# Altium schematic symbol library 1.2   - 74系列芯片.SchLib: 18 symbols
Pins are listed as number, name and electrical type; pins without a type are passive.

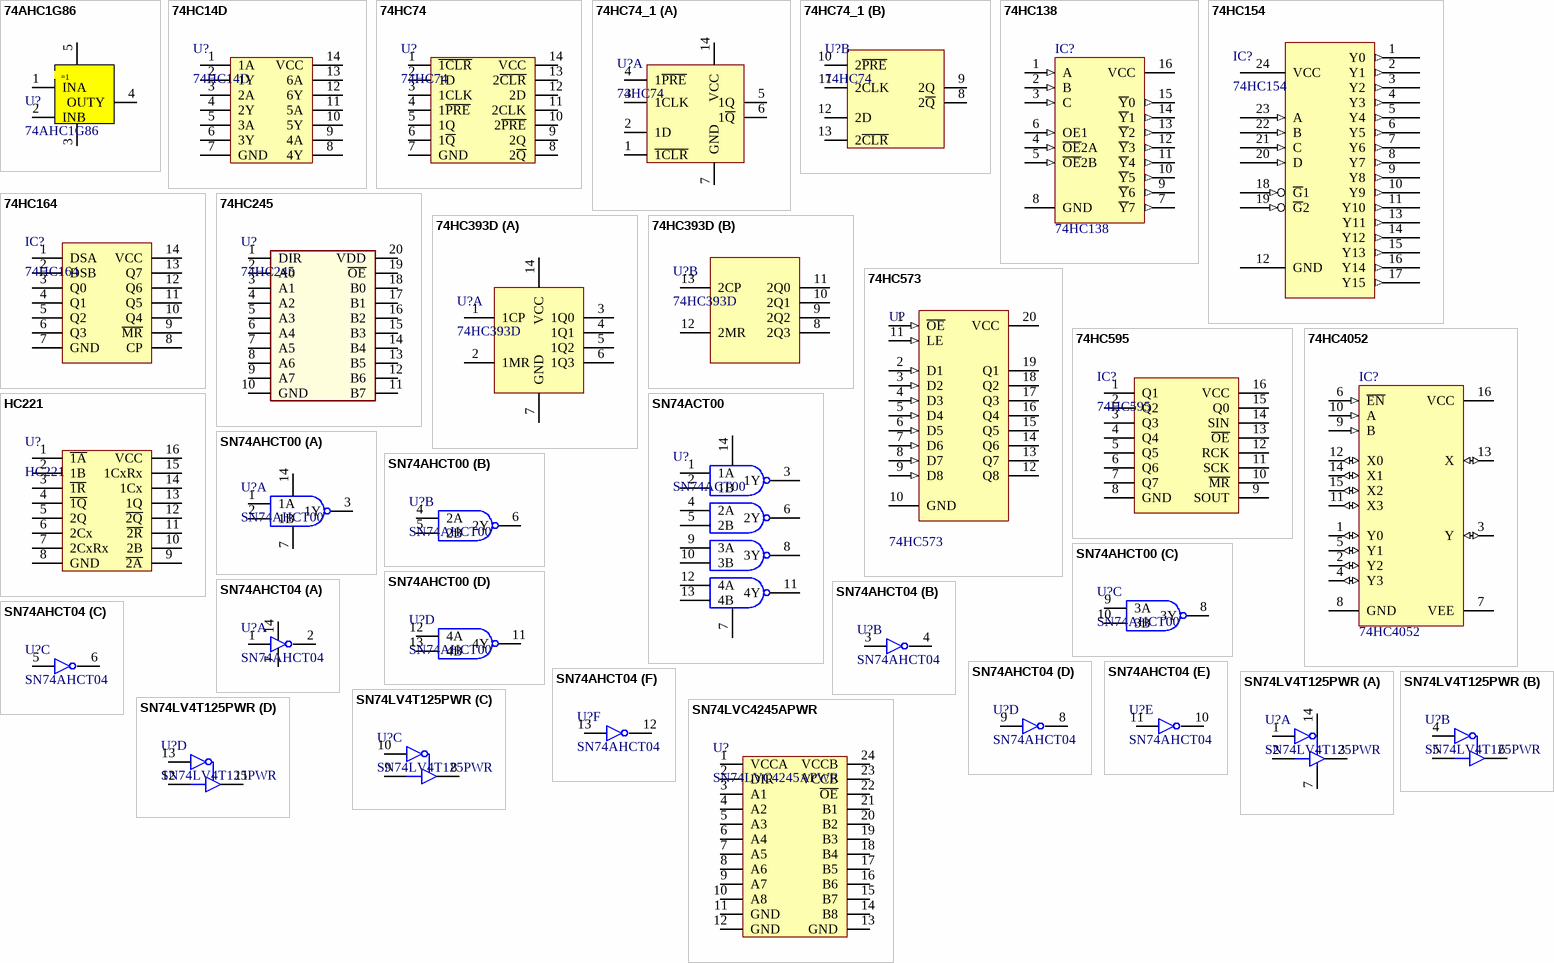
[diagram p0: symbols 74AHC1G86 to SN74LVC4245APWR]

## 74AHC1G86
designator U?
增强型塑料单路 2 输入异或门; Revised By: Z_xiao
footprint SOT23-5L (3x1.6x1.1mm(长宽高))
pins: 1 INA, 2 INB, 3 GND, 4 OUTY, 5 VCC

## 74HC14D
designator U?
6路斯密特触发反相器; Revised By: Z_xiao
footprint SOP14_L (8.7*6.2*1.8mm（长宽高）)
pins: 1 1A, 2 1Y, 3 2A, 4 2Y, 5 3A, 6 3Y, 7 GND, 8 4Y, 9 4A, 10 5Y, 11 5A, 12 6Y, 13 6A, 14 VCC

## 74HC74
designator U?
双路 D 类触发器; Revised By: Z_xiao
footprint SOP14_L (8.7*6.2*1.8mm（长宽高）)
footprint SOP14_M (8.7*6.2*1.8mm（长宽高）)
footprint SOP14_N (8.7*6.2*1.8mm（长宽高）)
pins: 1 ~{1CLR}, 2 1D, 3 1CLK, 4 1~{PRE}, 5 1Q, 6 1~{Q}, 7 GND, 8 2~{Q}, 9 2Q, 10 2~{PRE}, 11 2CLK, 12 2D, 13 2~{CLR}, 14 VCC

## 74HC74_1
designator U?, comment 74HC74
双路 D 类触发器; Revised By: Z_xiao
footprint SOP14_L (8.7*6.2*1.8mm（长宽高）)
footprint SOP14_M (8.7*6.2*1.8mm（长宽高）)
footprint SOP14_N (8.7*6.2*1.8mm（长宽高）)
part A pins: 1 ~{1CLR}, 2 1D, 3 1CLK, 4 1~{PRE}, 5 1Q, 6 1~{Q}, 7 GND, 14 VCC
part B pins: 8 2~{Q}, 9 2Q, 10 2~{PRE}, 11 2CLK, 12 2D, 13 2~{CLR}

## 74HC138
designator IC?
138译码器; Revised By: Z_xiao
footprint DIP16-300 (19.3*7.6*3.8(长宽高）)
footprint SOP16_L (10.3*6.2*1.8mm（长宽高）)
footprint SOP16_N (10.3*6.2*1.8mm（长宽高）)
footprint SOP16_M (10.3*6.2*1.8mm（长宽高）)
pins: 1 A (in), 2 B (in), 3 C (in), 4 ~{OE}2A (in), 5 ~{OE}2B (in), 6 OE1 (in), 7 ~{Y}7 (out), 8 GND (power), 9 ~{Y}6 (out), 10 ~{Y}5 (out), 11 ~{Y}4 (out), 12 ~{Y}3 (out), 13 ~{Y}2 (out), 14 ~{Y}1 (out), 15 ~{Y}0 (out), 16 VCC (power)

## 74HC154
designator IC?
4线转16线译码器; Revised By: Z_xiao
footprint DIP24-300 (31*7.6*3.8(长宽高）)
footprint DIP24-300_MH (带底座 31*7.6*3.8(长宽高）)
footprint SOP24_L (15.4*10.6*2.6mm（长宽高）)
footprint SOP24_M (15.4*10.6*2.6mm（长宽高）)
footprint SOP24_N (15.4*10.6*2.6mm（长宽高）)
pins: 1 Y0 (out), 2 Y1 (out), 3 Y2 (out), 4 Y3 (out), 5 Y4 (out), 6 Y5 (out), 7 Y6 (out), 8 Y7 (out), 9 Y8 (out), 10 Y9 (out), 11 Y10 (out), 12 GND (power), 13 Y11 (out), 14 Y12 (out), 15 Y13 (out), 16 Y14 (out), 17 Y15 (out), 18 ~{G}1 (in), 19 ~{G}2 (in), 20 D (in), 21 C (in), 22 B (in), 23 A (in), 24 VCC (power)

## 74HC164
designator IC?
8位串入并出移位寄存器; Revised By: Z_xiao
footprint SOP14_N (8.7*6.2*1.8mm（长宽高）)
footprint SOP14_L (8.7*6.2*1.8mm（长宽高）)
footprint SOP14_M (8.7*6.2*1.8mm（长宽高）)
footprint DIP14-300 (19*7.6*3.8(长宽高）)
pins: 1 DSA, 2 DSB, 3 Q0, 4 Q1, 5 Q2, 6 Q3, 7 GND, 8 CP, 9 ~{MR}, 10 Q4, 11 Q5, 12 Q6, 13 Q7, 14 VCC

## 74HC245
designator U?
兼容TTL器件引脚的高速CMOS总线收发器; Revised By: Z_xiao
pins: 1 DIR, 2 A0, 3 A1, 4 A2, 5 A3, 6 A4, 7 A5, 8 A6, 9 A7, 10 GND, 11 B7, 12 B6, 13 B5, 14 B4, 15 B3, 16 B2, 17 B1, 18 B0, 19 ~{OE}, 20 VDD

## 74HC393D
designator U?
双4位二进制脉冲计数器; Revised By: Z_xiao
footprint SOP14_L (8.7*6.2*1.8mm（长宽高）)
part A pins: 1 1CP, 2 1MR, 3 1Q0, 4 1Q1, 5 1Q2, 6 1Q3, 7 GND, 14 VCC
part B pins: 8 2Q3, 9 2Q2, 10 2Q1, 11 2Q0, 12 2MR, 13 2CP

## 74HC573
designator U?
D类三态输出锁存器; Revised By: Z_xiao
footprint SOP20_L (13*10.6*2.6（长宽高）)
footprint SOP20_N (13*10.6*2.6（长宽高）)
footprint SOP20_M (13*10.6*2.6（长宽高）)
footprint DIP20-300 (26.4*7.6*3.8(长宽高）)
pins: 1 ~{OE} (in), 2 D1 (in), 3 D2 (in), 4 D3 (in), 5 D4 (in), 6 D5 (in), 7 D6 (in), 8 D7 (in), 9 D8 (in), 10 GND (power), 11 LE (in), 12 Q8 (hiz), 13 Q7 (hiz), 14 Q6 (hiz), 15 Q5 (hiz), 16 Q4 (hiz), 17 Q3 (hiz), 18 Q2 (hiz), 19 Q1 (hiz), 20 VCC (power)

## 74HC595
designator IC?
8位移位寄存器; Revised By: Z_xiao
footprint SOP16_N (10.3*6.2*1.8mm（长宽高）)
footprint SOP16_L (10.3*6.2*1.8mm（长宽高）)
footprint SOP16_M (10.3*6.2*1.8mm（长宽高）)
footprint DIP16-300 (19.3*7.6*3.8(长宽高）)
pins: 1 Q1, 2 Q2, 3 Q3, 4 Q4, 5 Q5, 6 Q6, 7 Q7, 8 GND, 9 SOUT, 10 ~{MR}, 11 SCK, 12 RCK, 13 ~{OE}, 14 SIN, 15 Q0, 16 VCC

## 74HC4052
designator IC?
双通道模拟开关; Revised By: Z_xiao
footprint SOP16_N (10.3*6.2*1.8mm（长宽高）)
footprint SOP16_L (10.3*6.2*1.8mm（长宽高）)
footprint SOP16_M (10.3*6.2*1.8mm（长宽高）)
footprint DIP16-300 (19.3*7.6*3.8(长宽高）)
pins: 1 Y0 (io), 2 Y2 (io), 3 Y (io), 4 Y3 (io), 5 Y1 (io), 6 ~{EN} (in), 7 VEE (power), 8 GND (power), 9 B (in), 10 A (in), 11 X3 (io), 12 X0 (io), 13 X (io), 14 X1 (io), 15 X2 (io), 16 VCC (power)

## HC221
designator U?
多频振荡器; Revised By: Z_xiao
footprint SOP16_L (10.3*6.2*1.8mm（长宽高）)
pins: 1 ~{1A}, 2 1B, 3 ~{1R}, 4 ~{1Q}, 5 2Q, 6 2Cx, 7 2CxRx, 8 GND, 9 ~{2A}, 10 2B, 11 ~{2R}, 12 ~{2Q}, 13 1Q, 14 1Cx, 15 1CxRx, 16 VCC

## SN74ACT00
designator U?
四路 2 输入正与非门; Revised By: Z_xiao
footprint TSSOP14_L (5*6.4*1mm（长宽高）)
pins: 1 1A, 2 1B, 3 1Y, 4 2A, 5 2B, 6 2Y, 7, 8 3Y, 9 3A, 10 3B, 11 4Y, 12 4A, 13 4B, 14

## SN74AHCT00
designator U?
四路 2 输入正与非门; Revised By: Z_xiao
footprint SOP14_L (8.7*6.2*1.8mm（长宽高）)
footprint SOP14_M (8.7*6.2*1.8mm（长宽高）)
footprint SOP14_N (8.7*6.2*1.8mm（长宽高）)
part A pins: 1 1A, 2 1B, 3 1Y, 7, 14
part B pins: 4 2A, 5 2B, 6 2Y
part C pins: 8 3Y, 9 3A, 10 3B
part D pins: 11 4Y, 12 4A, 13 4B

## SN74AHCT04
designator U?
六路反向器; Revised By: Z_xiao
footprint SOP14_L (8.7*6.2*1.8mm（长宽高）)
footprint SOP14_M (8.7*6.2*1.8mm（长宽高）)
footprint SOP14_N (8.7*6.2*1.8mm（长宽高）)
part A pins: 1 1A, 2 1Y, 7 GND, 14 VCC
part B pins: 3 2A, 4 2Y
part C pins: 5 3A, 6 3Y
part D pins: 8 4Y, 9 4A
part E pins: 10 5Y, 11 5A
part F pins: 12 6Y, 13 6A

## SN74LV4T125PWR
designator U?
单电源四缓冲区转换器门，具有三态输出CMOS 逻辑电平转换器; Revised By: Z_xiao
footprint TSSOP14_L (5*6.4*1mm（长宽高）)
footprint TSSOP14_M (5*6.4*1mm（长宽高）)
footprint TSSOP14_N (5*6.4*1mm（长宽高）)
part A pins: 1 ~{1OE}, 2 1A, 3 1Y, 7 GND, 14 VDD
part B pins: 4 ~{2OE}, 5 2A, 6 2Y
part C pins: 8 3Y, 9 3A, 10 ~{3OE}
part D pins: 11 4Y, 12 4A, 13 ~{4OE}

## SN74LVC4245APWR
designator U?
Revised By: Z_xiao
footprint TSSOP24_L (7.8*6.4*1mm（长宽高）)
footprint TSSOP24_M (7.8*6.4*1mm（长宽高）)
footprint TSSOP24_N (7.8*6.4*1mm（长宽高）)
pins: 1 VCCA, 2 DIR, 3 A1, 4 A2, 5 A3, 6 A4, 7 A5, 8 A6, 9 A7, 10 A8, 11 GND, 12 GND, 13 GND, 14 B8, 15 B7, 16 B6, 17 B5, 18 B4, 19 B3, 20 B2, 21 B1, 22 ~{OE}, 23 VCCB, 24 VCCB